# Altium schematic symbol library SW_DPDT.SchLib: 1 symbol
Pins are listed as number, name and electrical type; pins without a type are passive.

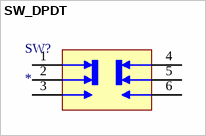
[diagram p0: symbol SW_DPDT]

## SW_DPDT
designator SW?
Value: *
pins: 1, 2, 3, 4, 5, 6